# EAGLE library part XRT82D20 (library cvogel)
SINGLE CHANNEL E1 LINE INTERFACE UNIT
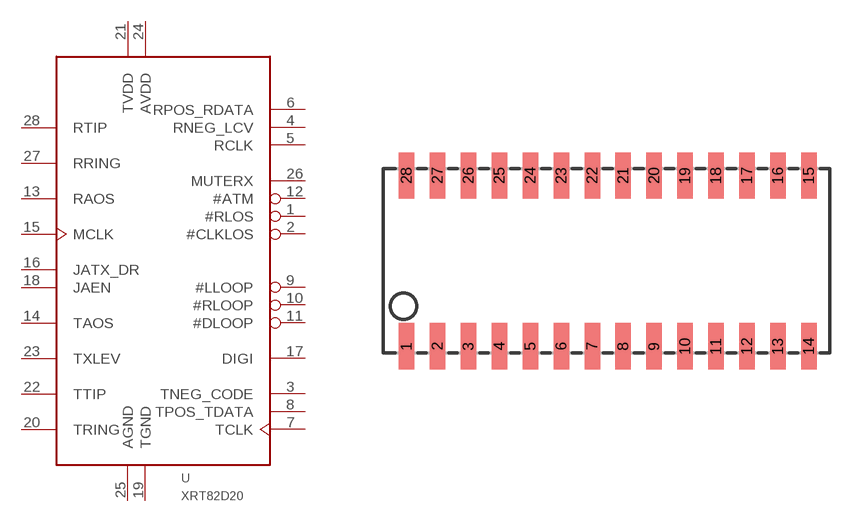
[diagram p10: symbol with the pads of SOJ28/3; footprint SOJ28/3]

Designator prefix U

## XRT82D20  [SOJ28/3]
1  #RLOS  out
2  #CLKLOS  out
3  TNEG_CODE  in
4  RNEG_LCV  out
5  RCLK  out
6  RPOS_RDATA  out
7  TCLK  in
8  TPOS_TDATA  in
9  #LLOOP  in
10  #RLOOP  in
11  #DLOOP  in
12  #ATM  in
13  RAOS  in
14  TAOS  in
15  MCLK  in
16  JATX_DR  in
17  DIGI
18  JAEN  in
19  TGND
20  TRING  in
21  TVDD  sup
22  TTIP  in
23  TXLEV  in
24  AVDD  sup
25  AGND
26  MUTERX
27  RRING  in
28  RTIP  in

## Footprint SOJ28/3 (pad centres in mm)
Small Outline J-Bend
smd 0.635 x 1.905: 1 -8.255,-3.505; 2 -6.985,-3.505; 3 -5.715,-3.505; 4 -4.445,-3.505; 5 -3.175,-3.505; 6 -1.905,-3.505; 7 -0.635,-3.505; 8 0.635,-3.505; 9 1.905,-3.505; 10 3.175,-3.505; 11 4.445,-3.505; 12 5.715,-3.505; 13 6.985,-3.505; 14 8.255,-3.505; 15 8.255,3.505; 16 6.985,3.505; 17 5.715,3.505; 18 4.445,3.505; 19 3.175,3.505; 20 1.905,3.505; 21 0.635,3.505; 22 -0.635,3.505; 23 -1.905,3.505; 24 -3.175,3.505; 25 -4.445,3.505; 26 -5.715,3.505; 27 -6.985,3.505; 28 -8.255,3.505